# EAGLE library part M80023BLE (library DX-BT16 library)
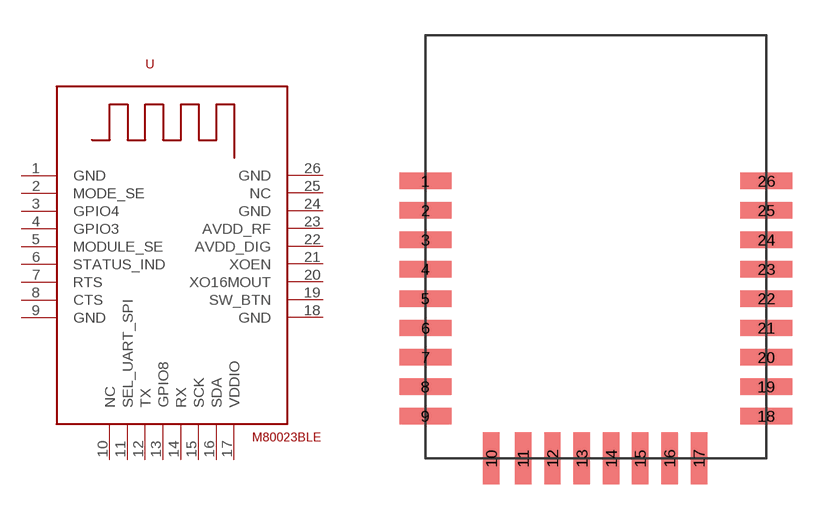
[diagram p0: symbol with the pads of M80023BLE; footprint M80023BLE]

Designator prefix -

## M80023BLE  [M80023BLE]
1  GND
2  MODE_SE
3  GPIO4
4  GPIO3
5  MODULE_SE
6  STATUS_IND
7  RTS
8  CTS
9  GND
10  NC
11  SEL_UART_SPI
12  TX
13  GPIO8
14  RX
15  SCK
16  SDA
17  VDDIO
18  GND
19  SW_BTN
20  XO16MOUT
21  XOEN
22  AVDD_DIG
23  AVDD_RF
24  GND
25  NC
26  GND

## Footprint M80023BLE (pad centres in mm)
smd 2.2 x 0.7: 1 0,11.8; 2 0,10.55; 3 0,9.3; 4 0,8.05; 5 0,6.8; 6 0,5.55; 7 0,4.3; 8 0,3.05; 9 0,1.8; 18 14.5,1.8; 19 14.5,3.05; 20 14.5,4.3; 21 14.5,5.55; 22 14.5,6.8; 23 14.5,8.05; 24 14.5,9.3; 25 14.5,10.55; 26 14.5,11.8
smd 0.7 x 2.2: 10 2.8,0; 11 4.15,0; 12 5.4,0; 13 6.65,0; 14 7.9,0; 15 9.13,0; 16 10.38,0; 17 11.63,0